# Altium schematic symbol library HTU21D.SchLib: 1 symbol
Pins are listed as number, name and electrical type; pins without a type are passive.

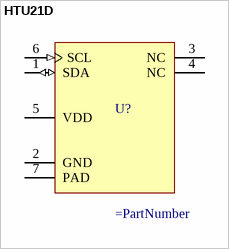
[diagram p0: symbol HTU21D]

## HTU21D
designator U?
pins: 1 SDA (io) "Data bit-stream", 2 GND (power) "Ground", 3 NC "Must be left unconnected", 4 NC "Must be left unconnected", 5 VDD (power) "Supply Voltage", 6 SCL (in) "Selector for RH or Temp", 7 PAD (power) "Ground or unconnected"